# EAGLE library part PREC070F04X2R90 (library con-pinheader-precision)
female precision header
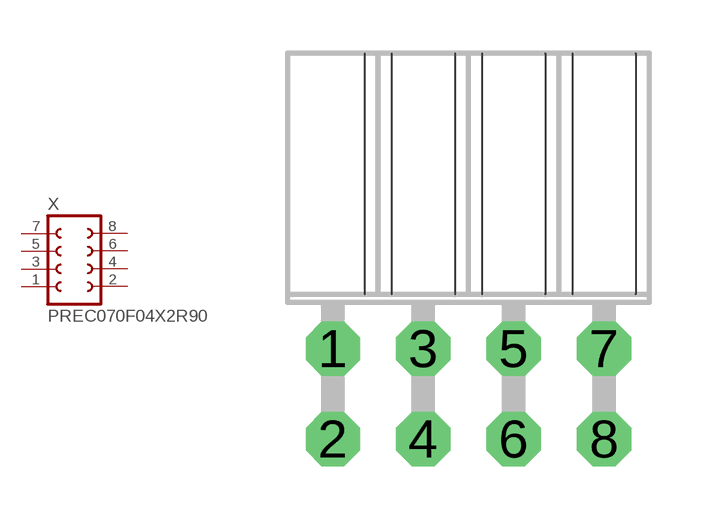
[diagram p17: symbol with the pads of PREC070F04X2R90; footprint PREC070F04X2R90]

Designator prefix X

## PREC070F04X2R90  [PREC070F04X2R90]
1  1  pas
2  2  pas
3  3  pas
4  4  pas
5  5  pas
6  6  pas
7  7  pas
8  8  pas

## Footprint PREC070F04X2R90 (pad centres in mm)
female precision header
drill 1.016 octagon: 1 -3.81,1.27; 2 -3.81,-1.27; 3 -1.27,1.27; 4 -1.27,-1.27; 5 1.27,1.27; 6 1.27,-1.27; 7 3.81,1.27; 8 3.81,-1.27